# EAGLE library part ST1S40IP (library Marvin)
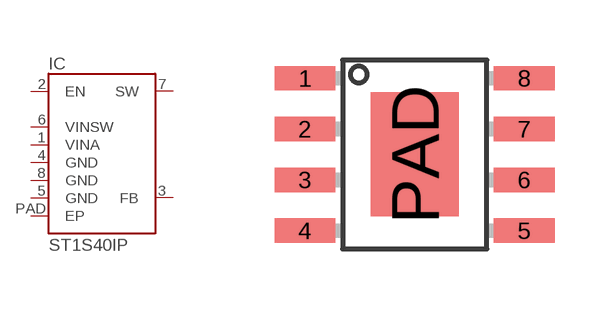
[diagram p16: symbol with the pads of HSOP8; footprint HSOP8]

Designator prefix IC

## ST1S40IPHR  [HSOP8]
1  VINA  pwr
2  EN
3  FB  pas
4  GND  pwr
5  GND  pwr
6  VINSW  pwr
7  SW  pas
8  GND  pwr
PAD  EP

## Footprint HSOP8 (pad centres in mm)
smd 1.524 x 0.61: 1 -2.743,1.905; 2 -2.743,0.635; 3 -2.743,-0.635; 4 -2.743,-1.905; 5 2.743,-1.905; 6 2.743,-0.635; 7 2.743,0.635; 8 2.743,1.905
smd 2.2 x 3.1: PAD 0,0